# EAGLE library part YM2612 (library YM)
Dual In Line
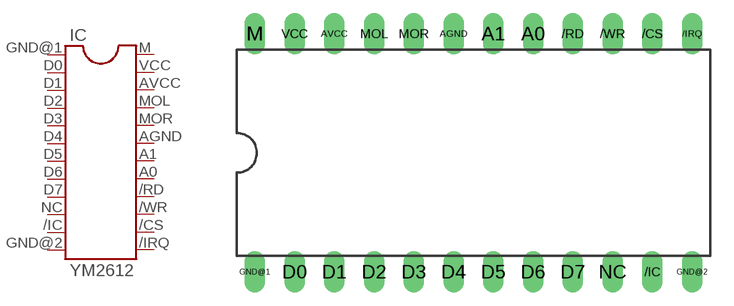
[diagram p1: symbol with the pads of YM2612; footprint YM2612]

Designator prefix IC

## YM2612  [YM2612]
/CS  /CS  pas
/IC  /IC  pas
/IRQ  /IRQ  pas
/RD  /RD  pas
/WR  /WR  pas
A0  A0  pas
A1  A1  pas
AGND  AGND  pas
AVCC  AVCC  pas
D0  D0  pas
D1  D1  pas
D2  D2  pas
D3  D3  pas
D4  D4  pas
D5  D5  pas
D6  D6  pas
D7  D7  pas
GND@1  GND  pas
GND@2  GND  pas
M  M  pas
MOL  MOL  pas
MOR  MOR  pas
NC  NC  pas
VCC  VCC  pas

## Footprint YM2612 (pad centres in mm)
Dual In Line Package 0.6 inch
drill 0.813 long: /CS 11.43,7.62; /IC 11.43,-7.62; /IRQ 13.97,7.62; /RD 6.35,7.62; /WR 8.89,7.62; A0 3.81,7.62; A1 1.27,7.62; AGND -1.27,7.62; AVCC -8.89,7.62; D0 -11.43,-7.62; D1 -8.89,-7.62; D2 -6.35,-7.62; D3 -3.81,-7.62; D4 -1.27,-7.62; D5 1.27,-7.62; D6 3.81,-7.62; D7 6.35,-7.62; GND@1 -13.97,-7.62; GND@2 13.97,-7.62; M -13.97,7.62; MOL -6.35,7.62; MOR -3.81,7.62; NC 8.89,-7.62; VCC -11.43,7.62